# EAGLE library part XF2M40151A (library CONNECTORs)
FFC / FPC Board Connector, ZIF, Surface Mount, Plug, 40 Contacts, Top, Bottom, 0.5 mm
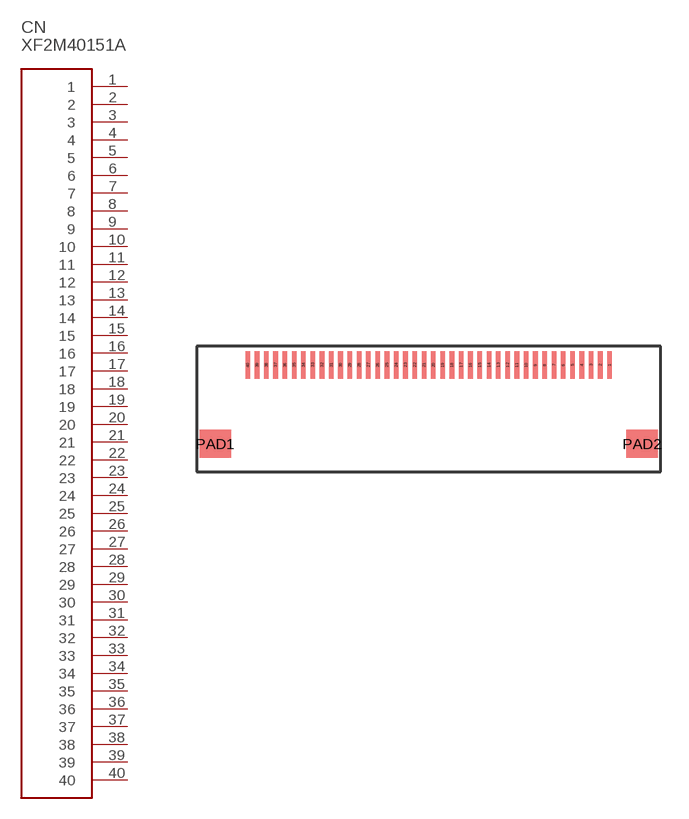
[diagram p25: symbol with the pads of XF2M40151A; footprint XF2M40151A]

Designator prefix CN

## XF2M40151A (DIGIKEY: OR729CT-ND; HEIGHT: 2; PRICE_PER: 2.07; VALUE: 40PIN FPC)  [XF2M40151A]
1  1
2  2
3  3
4  4
5  5
6  6
7  7
8  8
9  9
10  10
11  11
12  12
13  13
14  14
15  15
16  16
17  17
18  18
19  19
20  20
21  21
22  22
23  23
24  24
25  25
26  26
27  27
28  28
29  29
30  30
31  31
32  32
33  33
34  34
35  35
36  36
37  37
38  38
39  39
40  40

## Footprint XF2M40151A (pad centres in mm)
smd 0.25 x 1.5: 1 9.75,2.75; 2 9.25,2.75; 3 8.75,2.75; 4 8.25,2.75; 5 7.75,2.75; 6 7.25,2.75; 7 6.75,2.75; 8 6.25,2.75; 9 5.75,2.75; 10 5.25,2.75; 11 4.75,2.75; 12 4.25,2.75; 13 3.75,2.75; 14 3.25,2.75; 15 2.75,2.75; 16 2.25,2.75; 17 1.75,2.75; 18 1.25,2.75; 19 0.75,2.75; 20 0.25,2.75; 21 -0.25,2.75; 22 -0.75,2.75; 23 -1.25,2.75; 24 -1.75,2.75; 25 -2.25,2.75; 26 -2.75,2.75; 27 -3.25,2.75; 28 -3.75,2.75; 29 -4.25,2.75; 30 -4.75,2.75; 31 -5.25,2.75; 32 -5.75,2.75; 33 -6.25,2.75; 34 -6.75,2.75; 35 -7.25,2.75; 36 -7.75,2.75; 37 -8.25,2.75; 38 -8.75,2.75; 39 -9.25,2.75; 40 -9.75,2.75
smd 1.7 x 1.5: PAD1 -11.5,-1.5; PAD2 11.5,-1.5